# Altium footprint library Jumper.PcbLib: 27 footprints (part 2 of 2)
Each footprint in its own frame and in the unit in brackets; x right, y up, seen from the top. Pads: shape width x height; smd on the part's side, far side on the other; paste and mask are expansions set on the pad; w line width, h text height; cw(c..) or ccw(c..) is an arc to the next point about the centre after c.
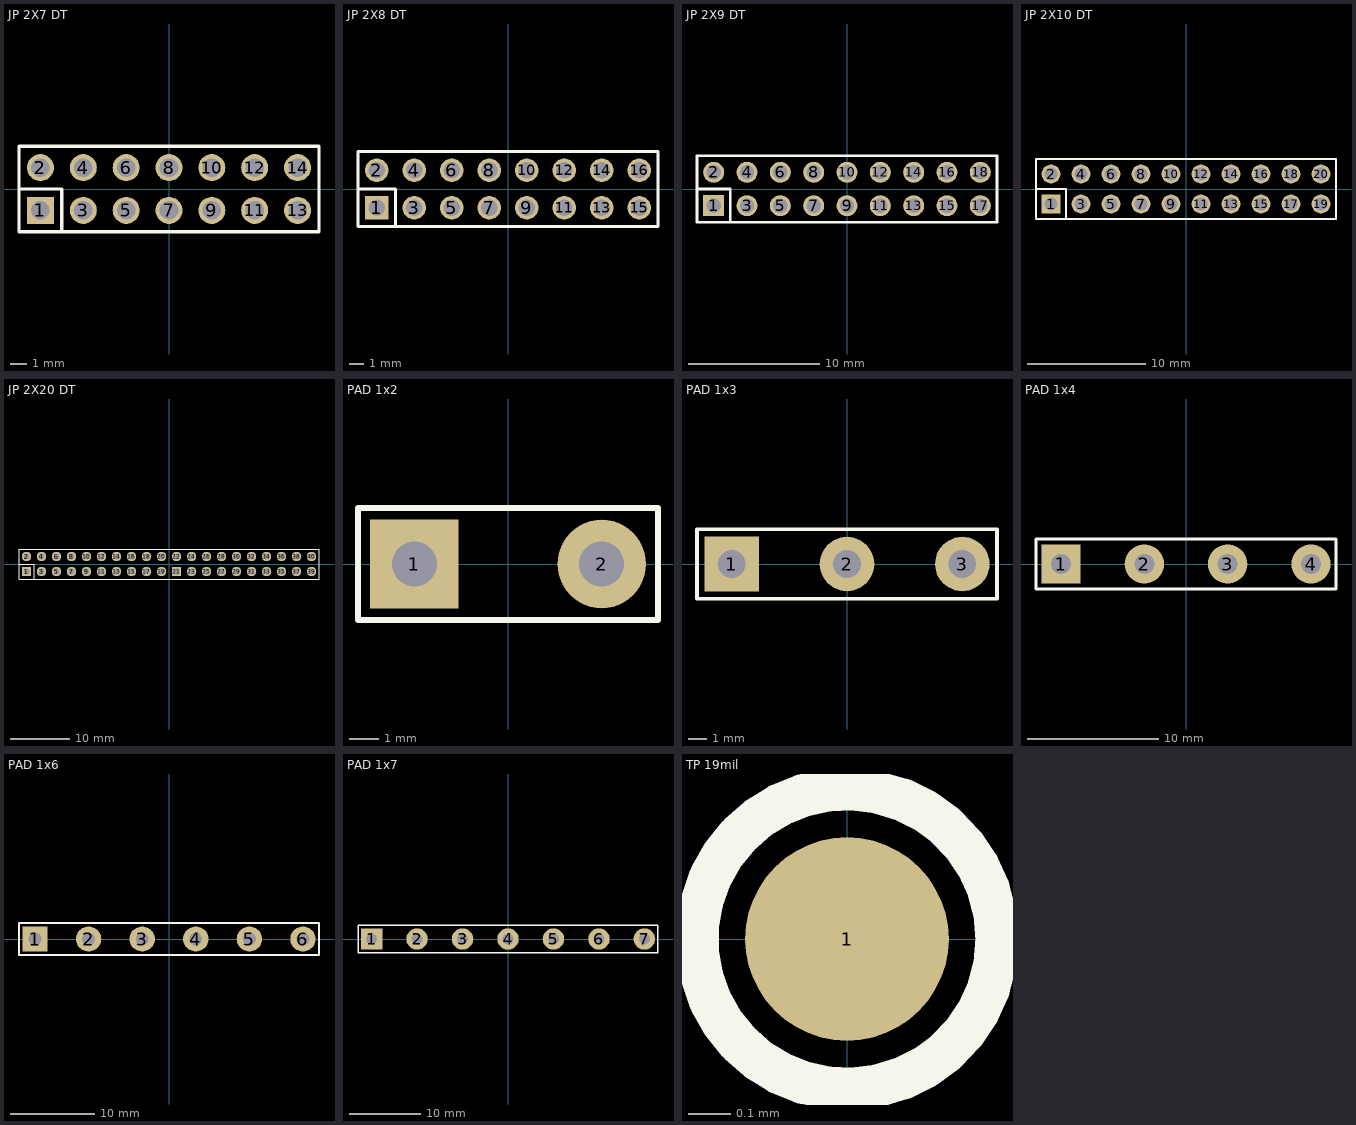
[diagram p1: the footprints below, top view; thin cyan lines are the x and y axes]

## JP 2X7 DT [mm] "14 pins, dual pin, straight, gold plating"
height 8.54
pads (14):
  rect 1.6x1.6 hole 1.1: 1(-7.62,-1.27)
  round 1.6 hole 1.1: 2(-7.62,1.27) 3(-5.08,-1.27) 4(-5.08,1.27) 5(-2.54,-1.27) 6(-2.54,1.27) 7(0,-1.27) 8(0,1.27) 9(2.54,-1.27) 10(2.54,1.27) 11(5.08,-1.27) 12(5.08,1.27) 13(7.62,-1.27) 14(7.62,1.27)
Top Overlay:
  lines w0.2: -8.89,0 -6.35,0 -6.35,-2.54 ; -8.89,-2.54 -8.89,2.54 8.89,2.54 8.89,-2.54 -8.89,-2.54
3D body "61301421121.stp": height 8.55, standoff -2.99, extent -8.89,-2.54 8.89,2.54

## JP 2X8 DT [mm] "16 pins, dual pin, straight, gold plating"
height 8.54
pads (16):
  rect 1.6x1.6 hole 1.1: 1(-8.89,-1.27)
  round 1.6 hole 1.1: 2(-8.89,1.27) 3(-6.35,-1.27) 4(-6.35,1.27) 5(-3.81,-1.27) 6(-3.81,1.27) 7(-1.27,-1.27) 8(-1.27,1.27) 9(1.27,-1.27) 10(1.27,1.27) 11(3.81,-1.27) 12(3.81,1.27) 13(6.35,-1.27) 14(6.35,1.27) 15(8.89,-1.27) 16(8.89,1.27)
Top Overlay:
  lines w0.2: -10.16,0 -7.62,0 -7.62,-2.54 ; -10.16,-2.54 -10.16,2.54 10.16,2.54 10.16,-2.54 -10.16,-2.54
3D body "61301621121.stp": height 8.67, standoff -2.87, extent -10.16,-2.54 10.16,2.54

## JP 2X9 DT [mm] "18 pins, dual pin, straight, gold plating"
height 8.54
pads (18):
  rect 1.6x1.6 hole 1.1: 1(-10.16,-1.27)
  round 1.6 hole 1.1: 2(-10.16,1.27) 3(-7.62,-1.27) 4(-7.62,1.27) 5(-5.08,-1.27) 6(-5.08,1.27) 7(-2.54,-1.27) 8(-2.54,1.27) 9(0,-1.27) 10(0,1.27) 11(2.54,-1.27) 12(2.54,1.27) 13(5.08,-1.27) 14(5.08,1.27) 15(7.62,-1.27) 16(7.62,1.27) 17(10.16,-1.27) 18(10.16,1.27)
Top Overlay:
  lines w0.2: -11.43,0 -8.89,0 -8.89,-2.54 ; -11.43,-2.54 11.43,-2.54 11.43,2.54 -11.43,2.54 -11.43,-2.54
3D body "61301821121.stp": height 8.67, standoff -2.87, extent -11.43,-2.54 11.43,2.54

## JP 2X10 DT [mm] "20 pins, dual pin, straight, gold plating"
height 8.54
pads (20):
  rect 1.6x1.6 hole 1.1: 1(-11.43,-1.27)
  round 1.6 hole 1.1: 2(-11.43,1.27) 3(-8.89,-1.27) 4(-8.89,1.27) 5(-6.35,-1.27) 6(-6.35,1.27) 7(-3.81,-1.27) 8(-3.81,1.27) 9(-1.27,-1.27) 10(-1.27,1.27) 11(1.27,-1.27) 12(1.27,1.27) 13(3.81,-1.27) 14(3.81,1.27) 15(6.35,-1.27) 16(6.35,1.27) 17(8.89,-1.27) 18(8.89,1.27) 19(11.43,-1.27) 20(11.43,1.27)
Top Overlay:
  lines w0.2: -12.7,0 -10.16,0 -10.16,-2.54 ; -12.7,-2.54 12.7,-2.54 12.7,2.54 -12.7,2.54 -12.7,-2.54
3D body "61302021121.stp": height 8.67, standoff -2.87, extent -12.7,-2.54 12.7,2.54

## JP 2X20 DT [mm] "40 pins, dual pin, straight, gold plating"
height 8.54
pads (40):
  rect 1.6x1.6 hole 1.1: 1(-24.13,-1.27) 21(1.27,-1.27)
  round 1.6 hole 1.1: 2(-24.13,1.27) 3(-21.59,-1.27) 4(-21.59,1.27) 5(-19.05,-1.27) 6(-19.05,1.27) 7(-16.51,-1.27) 8(-16.51,1.27) 9(-13.97,-1.27) 10(-13.97,1.27) 11(-11.43,-1.27) 12(-11.43,1.27) 13(-8.89,-1.27) 14(-8.89,1.27) 15(-6.35,-1.27) 16(-6.35,1.27) 17(-3.81,-1.27) 18(-3.81,1.27) 19(-1.27,-1.27) 20(-1.27,1.27) 22(1.27,1.27) 23(3.81,-1.27) 24(3.81,1.27) 25(6.35,-1.27) 26(6.35,1.27) 27(8.89,-1.27) 28(8.89,1.27) 29(11.43,-1.27) 30(11.43,1.27) 31(13.97,-1.27) 32(13.97,1.27) 33(16.51,-1.27) 34(16.51,1.27) 35(19.05,-1.27) 36(19.05,1.27) 37(21.59,-1.27) 38(21.59,1.27) 39(24.13,-1.27) 40(24.13,1.27)
Top Overlay:
  lines w0.2: -25.4,0 -22.86,0 -22.86,-2.54 ; -25.4,-2.54 25.4,-2.54 25.4,2.54 -25.4,2.54 -25.4,-2.54
3D body "61304021121.stp": height 8.67, standoff -2.87, extent -25.4,-2.54 25.4,2.54

## PAD 1x2 [mm] "PAD"
pads (2):
  rect 3x3 hole 1.524: 1(-3.175,0)
  round 3 hole 1.524: 2(3.175,0)
Top Overlay:
  lines w0.203: -5.08,-1.905 5.08,-1.905 5.08,1.905 -5.08,1.905 -5.08,-1.905

## PAD 1x3 [mm] "PAD"
pads (3):
  rect 3x3 hole 1.524: 1(-6.35,0)
  round 3 hole 1.524: 2(0,0) 3(6.35,0)
Top Overlay:
  lines w0.203: -8.255,-1.905 -8.255,1.905 8.255,1.905 8.255,-1.905 -8.255,-1.905

## PAD 1x4 [mm] "PAD"
pads (4):
  rect 3x3 hole 1.524: 1(-9.525,0)
  round 3 hole 1.524: 2(-3.175,0) 3(3.175,0) 4(9.525,0)
Top Overlay:
  lines w0.203: -11.43,-1.905 11.43,-1.905 11.43,1.905 -11.43,1.905 -11.43,-1.905

## PAD 1x6 [mm] "PAD"
pads (6):
  rect 3x3 hole 1.524: 1(-15.875,0)
  round 3 hole 1.524: 2(-9.525,0) 3(-3.175,0) 4(3.175,0) 5(9.525,0) 6(15.875,0)
Top Overlay:
  lines w0.203: -17.78,-1.905 -17.78,1.905 17.78,1.905 17.78,-1.905 -17.78,-1.905

## PAD 1x7 [mm] "PAD"
pads (7):
  rect 3x3 hole 1.524: 1(-19.05,0)
  round 3 hole 1.524: 2(-12.7,0) 3(-6.35,0) 4(0,0) 5(6.35,0) 6(12.7,0) 7(19.05,0)
Top Overlay:
  lines w0.203: -20.955,-1.905 20.955,-1.905 20.955,1.905 -20.955,1.905 -20.955,-1.905

## TP 19mil [mil]
pads (1):
  round 19 smd mask+2: 1(0,0)
Top Overlay:
  circle w4: c0,0 r14